# Altium schematic symbol library 0R2.Schlib: 1 symbol
Pins are listed as number, name and electrical type; pins without a type are passive.

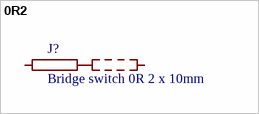
[diagram p0: symbol 0R2]

## 0R2
designator J?, comment Bridge switch 0R 2 x 10mm
footprint 0R2/10
pins: 1, 2, 3